# Altium schematic symbol library Balun_AnarenB0322J5050AHF.SchLib: 1 symbol
Pins are listed as number, name and electrical type; pins without a type are passive.

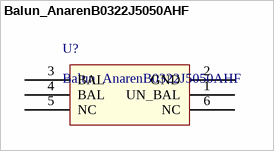
[diagram p0: symbol Balun_AnarenB0322J5050AHF]

## Balun_AnarenB0322J5050AHF
designator U?
Ultra Low Profile 0805 Balun, 50 ohm unbalanced to 50  Balanced
pins: 1 UN_BAL, 2 GND, 3 BAL, 4 BAL, 5 NC, 6 NC